# Altium schematic symbol library kmilo17pet-LT_ChargePump.SchLib: 599 symbols (part 3 of 29)
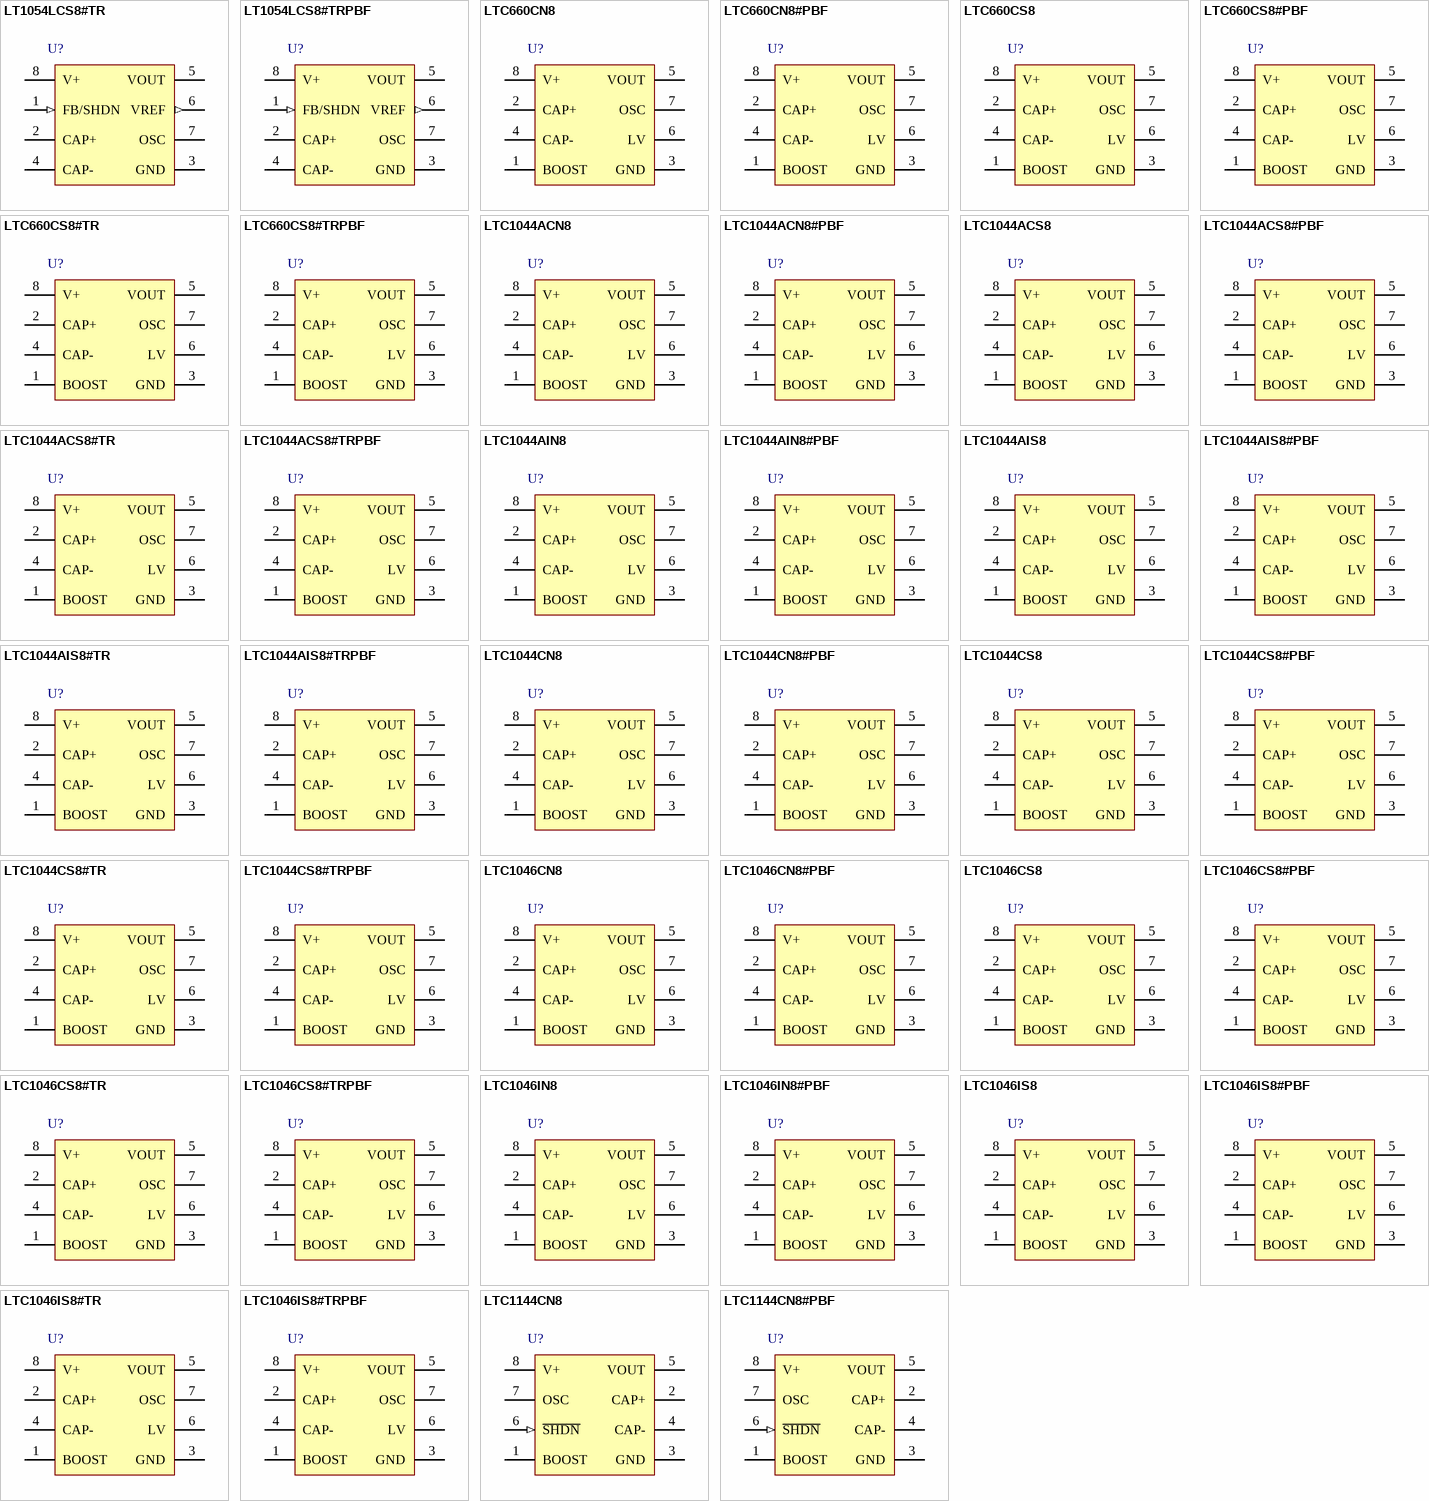
[diagram p18: symbols LT1054LCS8#TR to LTC1144CN8#PBF]

## LTC1044ACS8#TRPBF
designator U?
12 V CMOS Voltage Converter, 8-pin SOIC (S8-8), 0 to 70 degC, Pb-Free, Tape and Reel; Manufacturer: Linear Technology; PartNumber: LTC1044ACS8#TRPBF; Frequency(kHz): 5; Isupply(mA): 0.2; Max Iout(mA): 20; Vin Max(V): 12; Vin Min(V): 1.5; Voutput: 2Vin, -Vin, 0.5Vin; DatasheetVersion: Rev. 0; PackageVersion: Rev. G, 03/2012; PackageReference: S8-8; PackageDescription: 8-Pin Plastic Small Outline (Narrow .150 Inch), Body 4.9 x 3.9 mm, Pitch 1.27 mm; Supplier 1: Digi-Key; Supplier Part Number 1: LTC1044ACS8#TRPBFTR-ND; Supplier 2: Digi-Key; Supplier Part Number 2: LTC1044ACS8#TRPBFCT-ND; Supplier 3: Digi-Key; Supplier Part Number 3: LTC1044ACS8#TRPBFDKR-ND; Supplier 4: Newark; Supplier Part Number 4: 55M8889; Packing: Tape and Reel; RoHS: TRUE; Mounting Technology: Surface Mount; ComponentLink1Description: Manufacturer URL; ComponentLink1URL: http://www.linear.com/; ComponentLink2Description: Datasheet; ComponentLink2URL: http://cds.linear.com/docs/en/datasheet/lt1044a.pdf; ComponentLink3Description: Package Specification; ComponentLink3URL: http://cds.linear.com/docs/en/packaging/05081610_G_SO8.pdf
footprint LT-S8-8_N (SOIC, 8-Leads, Body 5x4mm, Pitch 1.27mm, IPC Medium Density)
footprint LT-S8-8_L (SOIC, 8-Leads, Body 5x4mm, Pitch 1.27mm, IPC High Density)
footprint LT-S8-8_M (SOIC, 8-Leads, Body 5x4mm, Pitch 1.27mm, IPC Low Density)
pins: 1 BOOST, 2 CAP+, 3 GND (power), 4 CAP-, 5 VOUT (power), 6 LV, 7 OSC, 8 V+ (power)

## LTC1044AIN8
designator U?
12 V CMOS Voltage Converter, 8-pin DIP (N8-8), -40 to 85 degC; Manufacturer: Linear Technology; PartNumber: LTC1044AIN8; Frequency(kHz): 5; Isupply(mA): 0.2; Max Iout(mA): 20; Vin Max(V): 12; Vin Min(V): 1.5; Voutput: 2Vin, -Vin, 0.5Vin; DatasheetVersion: Rev. 0; PackageVersion: Rev. I, 07/2011; PackageReference: N8-8; PackageDescription: 8-Pin PDIP, Body 10.16 x 6.48 mm, Pitch 2.54 mm; Supplier 1: Digi-Key; Supplier Part Number 1: LTC1044AIN8-ND; RoHS: FALSE; Mounting Technology: Through Hole; ComponentLink1Description: Manufacturer URL; ComponentLink1URL: http://www.linear.com/; ComponentLink2Description: Datasheet; ComponentLink2URL: http://cds.linear.com/docs/en/datasheet/lt1044a.pdf; ComponentLink3Description: Package Specification; ComponentLink3URL: http://www.linear.com/docs/en/packaging/05081510_I_N8.pdf
footprint LT-N8-8 (DIP, 8-Leads, Body 10.15x6.85mm, Pitch 2.54mm)
pins: 1 BOOST, 2 CAP+, 3 GND (power), 4 CAP-, 5 VOUT (power), 6 LV, 7 OSC, 8 V+ (power)

## LTC1044AIN8#PBF
designator U?
12 V CMOS Voltage Converter, 8-pin DIP (N8-8), -40 to 85 degC, Pb-Free; Manufacturer: Linear Technology; PartNumber: LTC1044AIN8#PBF; Frequency(kHz): 5; Isupply(mA): 0.2; Max Iout(mA): 20; Vin Max(V): 12; Vin Min(V): 1.5; Voutput: 2Vin, -Vin, 0.5Vin; DatasheetVersion: Rev. 0; PackageVersion: Rev. I, 07/2011; PackageReference: N8-8; PackageDescription: 8-Pin PDIP, Body 10.16 x 6.48 mm, Pitch 2.54 mm; Supplier 1: Digi-Key; Supplier Part Number 1: LTC1044AIN8#PBF-ND; Supplier 2: Newark; Supplier Part Number 2: 55M8891; RoHS: TRUE; Mounting Technology: Through Hole; ComponentLink1Description: Manufacturer URL; ComponentLink1URL: http://www.linear.com/; ComponentLink2Description: Datasheet; ComponentLink2URL: http://cds.linear.com/docs/en/datasheet/lt1044a.pdf; ComponentLink3Description: Package Specification; ComponentLink3URL: http://www.linear.com/docs/en/packaging/05081510_I_N8.pdf
footprint LT-N8-8 (DIP, 8-Leads, Body 10.15x6.85mm, Pitch 2.54mm)
pins: 1 BOOST, 2 CAP+, 3 GND (power), 4 CAP-, 5 VOUT (power), 6 LV, 7 OSC, 8 V+ (power)

## LTC1044AIS8
designator U?
12 V CMOS Voltage Converter, 8-pin SOIC (S8-8), -40 to 85 degC; Manufacturer: Linear Technology; PartNumber: LTC1044AIS8; Frequency(kHz): 5; Isupply(mA): 0.2; Max Iout(mA): 20; Vin Max(V): 12; Vin Min(V): 1.5; Voutput: 2Vin, -Vin, 0.5Vin; DatasheetVersion: Rev. 0; PackageVersion: Rev. G, 03/2012; PackageReference: S8-8; PackageDescription: 8-Pin Plastic Small Outline (Narrow .150 Inch), Body 4.9 x 3.9 mm, Pitch 1.27 mm; Supplier 1: Digi-Key; Supplier Part Number 1: LTC1044AIS8-ND; Supplier 2: Newark; Supplier Part Number 2: 55M8892; RoHS: FALSE; Mounting Technology: Surface Mount; ComponentLink1Description: Manufacturer URL; ComponentLink1URL: http://www.linear.com/; ComponentLink2Description: Datasheet; ComponentLink2URL: http://cds.linear.com/docs/en/datasheet/lt1044a.pdf; ComponentLink3Description: Package Specification; ComponentLink3URL: http://cds.linear.com/docs/en/packaging/05081610_G_SO8.pdf
footprint LT-S8-8_N (SOIC, 8-Leads, Body 5x4mm, Pitch 1.27mm, IPC Medium Density)
footprint LT-S8-8_L (SOIC, 8-Leads, Body 5x4mm, Pitch 1.27mm, IPC High Density)
footprint LT-S8-8_M (SOIC, 8-Leads, Body 5x4mm, Pitch 1.27mm, IPC Low Density)
pins: 1 BOOST, 2 CAP+, 3 GND (power), 4 CAP-, 5 VOUT (power), 6 LV, 7 OSC, 8 V+ (power)

## LTC1044AIS8#PBF
designator U?
12 V CMOS Voltage Converter, 8-pin SOIC (S8-8), -40 to 85 degC, Pb-Free; Manufacturer: Linear Technology; PartNumber: LTC1044AIS8#PBF; Frequency(kHz): 5; Isupply(mA): 0.2; Max Iout(mA): 20; Vin Max(V): 12; Vin Min(V): 1.5; Voutput: 2Vin, -Vin, 0.5Vin; DatasheetVersion: Rev. 0; PackageVersion: Rev. G, 03/2012; PackageReference: S8-8; PackageDescription: 8-Pin Plastic Small Outline (Narrow .150 Inch), Body 4.9 x 3.9 mm, Pitch 1.27 mm; Supplier 1: Digi-Key; Supplier Part Number 1: LTC1044AIS8#PBF-ND; Supplier 2: Farnell; Supplier Part Number 2: 2294973; Supplier 3: Newark; Supplier Part Number 3: 55M8893; RoHS: TRUE; Mounting Technology: Surface Mount; ComponentLink1Description: Manufacturer URL; ComponentLink1URL: http://www.linear.com/; ComponentLink2Description: Datasheet; ComponentLink2URL: http://cds.linear.com/docs/en/datasheet/lt1044a.pdf; ComponentLink3Description: Package Specification; ComponentLink3URL: http://cds.linear.com/docs/en/packaging/05081610_G_SO8.pdf
footprint LT-S8-8_N (SOIC, 8-Leads, Body 5x4mm, Pitch 1.27mm, IPC Medium Density)
footprint LT-S8-8_L (SOIC, 8-Leads, Body 5x4mm, Pitch 1.27mm, IPC High Density)
footprint LT-S8-8_M (SOIC, 8-Leads, Body 5x4mm, Pitch 1.27mm, IPC Low Density)
pins: 1 BOOST, 2 CAP+, 3 GND (power), 4 CAP-, 5 VOUT (power), 6 LV, 7 OSC, 8 V+ (power)

## LTC1044AIS8#TR
designator U?
12 V CMOS Voltage Converter, 8-pin SOIC (S8-8), -40 to 85 degC, Tape and Reel; Manufacturer: Linear Technology; PartNumber: LTC1044AIS8#TR; Frequency(kHz): 5; Isupply(mA): 0.2; Max Iout(mA): 20; Vin Max(V): 12; Vin Min(V): 1.5; Voutput: 2Vin, -Vin, 0.5Vin; DatasheetVersion: Rev. 0; PackageVersion: Rev. G, 03/2012; PackageReference: S8-8; PackageDescription: 8-Pin Plastic Small Outline (Narrow .150 Inch), Body 4.9 x 3.9 mm, Pitch 1.27 mm; Supplier 1: Digi-Key; Supplier Part Number 1: LTC1044AIS8#TR-ND; Packing: Tape and Reel; RoHS: FALSE; Mounting Technology: Surface Mount; ComponentLink1Description: Manufacturer URL; ComponentLink1URL: http://www.linear.com/; ComponentLink2Description: Datasheet; ComponentLink2URL: http://cds.linear.com/docs/en/datasheet/lt1044a.pdf; ComponentLink3Description: Package Specification; ComponentLink3URL: http://cds.linear.com/docs/en/packaging/05081610_G_SO8.pdf
footprint LT-S8-8_N (SOIC, 8-Leads, Body 5x4mm, Pitch 1.27mm, IPC Medium Density)
footprint LT-S8-8_L (SOIC, 8-Leads, Body 5x4mm, Pitch 1.27mm, IPC High Density)
footprint LT-S8-8_M (SOIC, 8-Leads, Body 5x4mm, Pitch 1.27mm, IPC Low Density)
pins: 1 BOOST, 2 CAP+, 3 GND (power), 4 CAP-, 5 VOUT (power), 6 LV, 7 OSC, 8 V+ (power)

## LTC1044AIS8#TRPBF
designator U?
12 V CMOS Voltage Converter, 8-pin SOIC (S8-8), -40 to 85 degC, Pb-Free, Tape and Reel; Manufacturer: Linear Technology; PartNumber: LTC1044AIS8#TRPBF; Frequency(kHz): 5; Isupply(mA): 0.2; Max Iout(mA): 20; Vin Max(V): 12; Vin Min(V): 1.5; Voutput: 2Vin, -Vin, 0.5Vin; DatasheetVersion: Rev. 0; PackageVersion: Rev. G, 03/2012; PackageReference: S8-8; PackageDescription: 8-Pin Plastic Small Outline (Narrow .150 Inch), Body 4.9 x 3.9 mm, Pitch 1.27 mm; Supplier 1: Digi-Key; Supplier Part Number 1: LTC1044AIS8#TRPBF-ND; Supplier 2: Newark; Supplier Part Number 2: 55M8895; Packing: Tape and Reel; RoHS: TRUE; Mounting Technology: Surface Mount; ComponentLink1Description: Manufacturer URL; ComponentLink1URL: http://www.linear.com/; ComponentLink2Description: Datasheet; ComponentLink2URL: http://cds.linear.com/docs/en/datasheet/lt1044a.pdf; ComponentLink3Description: Package Specification; ComponentLink3URL: http://cds.linear.com/docs/en/packaging/05081610_G_SO8.pdf
footprint LT-S8-8_N (SOIC, 8-Leads, Body 5x4mm, Pitch 1.27mm, IPC Medium Density)
footprint LT-S8-8_L (SOIC, 8-Leads, Body 5x4mm, Pitch 1.27mm, IPC High Density)
footprint LT-S8-8_M (SOIC, 8-Leads, Body 5x4mm, Pitch 1.27mm, IPC Low Density)
pins: 1 BOOST, 2 CAP+, 3 GND (power), 4 CAP-, 5 VOUT (power), 6 LV, 7 OSC, 8 V+ (power)

## LTC1044CN8
designator U?
Switched Capacitor Voltage Converter, 8-pin DIP (N8-8), -40 to 85 degC; Manufacturer: Linear Technology; PartNumber: LTC1044CN8; Frequency(kHz): 5; Isupply(mA): 0.2; Max Iout(mA): 20; Vin Max(V): 9; Vin Min(V): 1.5; Voutput: 2Vin, -Vin, 0.5Vin; PackageVersion: Rev. I, 07/2011; PackageReference: N8-8; PackageDescription: 8-Pin PDIP, Body 10.16 x 6.48 mm, Pitch 2.54 mm; Supplier 1: Digi-Key; Supplier Part Number 1: LTC1044CN8-ND; RoHS: FALSE; Mounting Technology: Through Hole; ComponentLink1Description: Manufacturer URL; ComponentLink1URL: http://www.linear.com/; ComponentLink2Description: Datasheet; ComponentLink2URL: http://cds.linear.com/docs/en/datasheet/lt1044.pdf; ComponentLink3Description: Package Specification; ComponentLink3URL: http://www.linear.com/docs/en/packaging/05081510_I_N8.pdf
footprint LT-N8-8 (DIP, 8-Leads, Body 10.15x6.85mm, Pitch 2.54mm)
pins: 1 BOOST, 2 CAP+, 3 GND (power), 4 CAP-, 5 VOUT (power), 6 LV, 7 OSC, 8 V+ (power)

## LTC1044CN8#PBF
designator U?
Switched Capacitor Voltage Converter, 8-pin DIP (N8-8), -40 to 85 degC, Pb-Free; Manufacturer: Linear Technology; PartNumber: LTC1044CN8#PBF; Frequency(kHz): 5; Isupply(mA): 0.2; Max Iout(mA): 20; Vin Max(V): 9; Vin Min(V): 1.5; Voutput: 2Vin, -Vin, 0.5Vin; PackageVersion: Rev. I, 07/2011; PackageReference: N8-8; PackageDescription: 8-Pin PDIP, Body 10.16 x 6.48 mm, Pitch 2.54 mm; Supplier 1: Digi-Key; Supplier Part Number 1: LTC1044CN8#PBF-ND; Supplier 2: Farnell; Supplier Part Number 2: 9560734; Supplier 3: Newark; Supplier Part Number 3: 55M8898; RoHS: TRUE; Mounting Technology: Through Hole; ComponentLink1Description: Manufacturer URL; ComponentLink1URL: http://www.linear.com/; ComponentLink2Description: Datasheet; ComponentLink2URL: http://cds.linear.com/docs/en/datasheet/lt1044.pdf; ComponentLink3Description: Package Specification; ComponentLink3URL: http://www.linear.com/docs/en/packaging/05081510_I_N8.pdf
footprint LT-N8-8 (DIP, 8-Leads, Body 10.15x6.85mm, Pitch 2.54mm)
pins: 1 BOOST, 2 CAP+, 3 GND (power), 4 CAP-, 5 VOUT (power), 6 LV, 7 OSC, 8 V+ (power)

## LTC1044CS8
designator U?
Switched Capacitor Voltage Converter, 8-pin SOIC (S8-8), -40 to 85 degC; Manufacturer: Linear Technology; PartNumber: LTC1044CS8; Frequency(kHz): 5; Isupply(mA): 0.2; Max Iout(mA): 20; Vin Max(V): 9; Vin Min(V): 1.5; Voutput: 2Vin, -Vin, 0.5Vin; PackageVersion: Rev. G, 03/2012; PackageReference: S8-8; PackageDescription: 8-Pin Plastic Small Outline (Narrow .150 Inch), Body 4.9 x 3.9 mm, Pitch 1.27 mm; Supplier 1: Digi-Key; Supplier Part Number 1: LTC1044CS8-ND; Supplier 2: Newark; Supplier Part Number 2: 55M8899; RoHS: FALSE; Mounting Technology: Surface Mount; ComponentLink1Description: Manufacturer URL; ComponentLink1URL: http://www.linear.com/; ComponentLink2Description: Datasheet; ComponentLink2URL: http://cds.linear.com/docs/en/datasheet/lt1044cs8.pdf; ComponentLink3Description: Package Specification; ComponentLink3URL: http://cds.linear.com/docs/en/packaging/05081610_G_SO8.pdf
footprint LT-S8-8_N (SOIC, 8-Leads, Body 5x4mm, Pitch 1.27mm, IPC Medium Density)
footprint LT-S8-8_L (SOIC, 8-Leads, Body 5x4mm, Pitch 1.27mm, IPC High Density)
footprint LT-S8-8_M (SOIC, 8-Leads, Body 5x4mm, Pitch 1.27mm, IPC Low Density)
pins: 1 BOOST, 2 CAP+, 3 GND (power), 4 CAP-, 5 VOUT (power), 6 LV, 7 OSC, 8 V+ (power)

## LTC1044CS8#PBF
designator U?
Switched Capacitor Voltage Converter, 8-pin SOIC (S8-8), -40 to 85 degC, Pb-Free; Manufacturer: Linear Technology; PartNumber: LTC1044CS8#PBF; Frequency(kHz): 5; Isupply(mA): 0.2; Max Iout(mA): 20; Vin Max(V): 9; Vin Min(V): 1.5; Voutput: 2Vin, -Vin, 0.5Vin; PackageVersion: Rev. G, 03/2012; PackageReference: S8-8; PackageDescription: 8-Pin Plastic Small Outline (Narrow .150 Inch), Body 4.9 x 3.9 mm, Pitch 1.27 mm; Supplier 1: Digi-Key; Supplier Part Number 1: LTC1044CS8#PBF-ND; Supplier 2: Farnell; Supplier Part Number 2: 1663593; Supplier 3: Newark; Supplier Part Number 3: 55M8900; RoHS: TRUE; Mounting Technology: Surface Mount; ComponentLink1Description: Manufacturer URL; ComponentLink1URL: http://www.linear.com/; ComponentLink2Description: Datasheet; ComponentLink2URL: http://cds.linear.com/docs/en/datasheet/lt1044cs8.pdf; ComponentLink3Description: Package Specification; ComponentLink3URL: http://cds.linear.com/docs/en/packaging/05081610_G_SO8.pdf
footprint LT-S8-8_N (SOIC, 8-Leads, Body 5x4mm, Pitch 1.27mm, IPC Medium Density)
footprint LT-S8-8_L (SOIC, 8-Leads, Body 5x4mm, Pitch 1.27mm, IPC High Density)
footprint LT-S8-8_M (SOIC, 8-Leads, Body 5x4mm, Pitch 1.27mm, IPC Low Density)
pins: 1 BOOST, 2 CAP+, 3 GND (power), 4 CAP-, 5 VOUT (power), 6 LV, 7 OSC, 8 V+ (power)

## LTC1044CS8#TR
designator U?
Switched Capacitor Voltage Converter, 8-pin SOIC (S8-8), -40 to 85 degC, Tape and Reel; Manufacturer: Linear Technology; PartNumber: LTC1044CS8#TR; Frequency(kHz): 5; Isupply(mA): 0.2; Max Iout(mA): 20; Vin Max(V): 9; Vin Min(V): 1.5; Voutput: 2Vin, -Vin, 0.5Vin; PackageVersion: Rev. G, 03/2012; PackageReference: S8-8; PackageDescription: 8-Pin Plastic Small Outline (Narrow .150 Inch), Body 4.9 x 3.9 mm, Pitch 1.27 mm; Supplier 1: Digi-Key; Supplier Part Number 1: LTC1044CS8TR-ND; Packing: Tape and Reel; RoHS: FALSE; Mounting Technology: Surface Mount; ComponentLink1Description: Manufacturer URL; ComponentLink1URL: http://www.linear.com/; ComponentLink2Description: Datasheet; ComponentLink2URL: http://cds.linear.com/docs/en/datasheet/lt1044cs8.pdf; ComponentLink3Description: Package Specification; ComponentLink3URL: http://cds.linear.com/docs/en/packaging/05081610_G_SO8.pdf
footprint LT-S8-8_N (SOIC, 8-Leads, Body 5x4mm, Pitch 1.27mm, IPC Medium Density)
footprint LT-S8-8_L (SOIC, 8-Leads, Body 5x4mm, Pitch 1.27mm, IPC High Density)
footprint LT-S8-8_M (SOIC, 8-Leads, Body 5x4mm, Pitch 1.27mm, IPC Low Density)
pins: 1 BOOST, 2 CAP+, 3 GND (power), 4 CAP-, 5 VOUT (power), 6 LV, 7 OSC, 8 V+ (power)

## LTC1044CS8#TRPBF
designator U?
Switched Capacitor Voltage Converter, 8-pin SOIC (S8-8), -40 to 85 degC, Pb-Free, Tape and Reel; Manufacturer: Linear Technology; PartNumber: LTC1044CS8#TRPBF; Frequency(kHz): 5; Isupply(mA): 0.2; Max Iout(mA): 20; Vin Max(V): 9; Vin Min(V): 1.5; Voutput: 2Vin, -Vin, 0.5Vin; PackageVersion: Rev. G, 03/2012; PackageReference: S8-8; PackageDescription: 8-Pin Plastic Small Outline (Narrow .150 Inch), Body 4.9 x 3.9 mm, Pitch 1.27 mm; Supplier 1: Digi-Key; Supplier Part Number 1: LTC1044CS8#TRPBFTR-ND; Supplier 2: Digi-Key; Supplier Part Number 2: LTC1044CS8#TRPBFCT-ND; Supplier 3: Digi-Key; Supplier Part Number 3: LTC1044CS8#TRPBFDKR-ND; Supplier 4: Newark; Supplier Part Number 4: 55M8902; Packing: Tape and Reel; RoHS: TRUE; Mounting Technology: Surface Mount; ComponentLink1Description: Manufacturer URL; ComponentLink1URL: http://www.linear.com/; ComponentLink2Description: Datasheet; ComponentLink2URL: http://cds.linear.com/docs/en/datasheet/lt1044cs8.pdf; ComponentLink3Description: Package Specification; ComponentLink3URL: http://cds.linear.com/docs/en/packaging/05081610_G_SO8.pdf
footprint LT-S8-8_N (SOIC, 8-Leads, Body 5x4mm, Pitch 1.27mm, IPC Medium Density)
footprint LT-S8-8_L (SOIC, 8-Leads, Body 5x4mm, Pitch 1.27mm, IPC High Density)
footprint LT-S8-8_M (SOIC, 8-Leads, Body 5x4mm, Pitch 1.27mm, IPC Low Density)
pins: 1 BOOST, 2 CAP+, 3 GND (power), 4 CAP-, 5 VOUT (power), 6 LV, 7 OSC, 8 V+ (power)

## LTC1046CN8
designator U?
Inductorless 5 V to -5 V Converter, 1.5 to 6 V Vin, 8-pin DIP (N8-8), 0 to 70 degC; Manufacturer: Linear Technology; PartNumber: LTC1046CN8; Frequency(kHz): 30; Isupply(mA): 0.165; Max Iout(mA): 50; Vin Max(V): 6; Vin Min(V): 1.5; Voutput: 2Vin, -Vin, 0.5Vin; DatasheetVersion: Rev. B; PackageVersion: Rev. I, 07/2011; PackageReference: N8-8; PackageDescription: 8-Pin PDIP, Body 10.16 x 6.48 mm, Pitch 2.54 mm; Supplier 1: Digi-Key; Supplier Part Number 1: LTC1046CN8-ND; RoHS: FALSE; Mounting Technology: Through Hole; ComponentLink1Description: Manufacturer URL; ComponentLink1URL: http://www.linear.com/; ComponentLink2Description: Datasheet; ComponentLink2URL: http://cds.linear.com/docs/en/datasheet/1046fb.pdf; ComponentLink3Description: Package Specification; ComponentLink3URL: http://www.linear.com/docs/en/packaging/05081510_I_N8.pdf
footprint LT-N8-8 (DIP, 8-Leads, Body 10.15x6.85mm, Pitch 2.54mm)
pins: 1 BOOST, 2 CAP+, 3 GND (power), 4 CAP-, 5 VOUT (power), 6 LV, 7 OSC, 8 V+ (power)

## LTC1046CN8#PBF
designator U?
Inductorless 5 V to -5 V Converter, 1.5 to 6 V Vin, 8-pin DIP (N8-8), 0 to 70 degC, Pb-Free; Manufacturer: Linear Technology; PartNumber: LTC1046CN8#PBF; Frequency(kHz): 30; Isupply(mA): 0.165; Max Iout(mA): 50; Vin Max(V): 6; Vin Min(V): 1.5; Voutput: 2Vin, -Vin, 0.5Vin; DatasheetVersion: Rev. B; PackageVersion: Rev. I, 07/2011; PackageReference: N8-8; PackageDescription: 8-Pin PDIP, Body 10.16 x 6.48 mm, Pitch 2.54 mm; Supplier 1: Digi-Key; Supplier Part Number 1: LTC1046CN8#PBF-ND; Supplier 2: Farnell; Supplier Part Number 2: 9560742; Supplier 3: Newark; Supplier Part Number 3: 55M8910; RoHS: TRUE; Mounting Technology: Through Hole; ComponentLink1Description: Manufacturer URL; ComponentLink1URL: http://www.linear.com/; ComponentLink2Description: Datasheet; ComponentLink2URL: http://cds.linear.com/docs/en/datasheet/1046fb.pdf; ComponentLink3Description: Package Specification; ComponentLink3URL: http://www.linear.com/docs/en/packaging/05081510_I_N8.pdf
footprint LT-N8-8 (DIP, 8-Leads, Body 10.15x6.85mm, Pitch 2.54mm)
pins: 1 BOOST, 2 CAP+, 3 GND (power), 4 CAP-, 5 VOUT (power), 6 LV, 7 OSC, 8 V+ (power)

## LTC1046CS8
designator U?
Inductorless 5 V to -5 V Converter, 1.5 to 6 V Vin, 8-pin SOIC (S8-8), 0 to 70 degC; Manufacturer: Linear Technology; PartNumber: LTC1046CS8; Frequency(kHz): 30; Isupply(mA): 0.165; Max Iout(mA): 50; Vin Max(V): 6; Vin Min(V): 1.5; Voutput: 2Vin, -Vin, 0.5Vin; DatasheetVersion: Rev. B; PackageVersion: Rev. G, 03/2012; PackageReference: S8-8; PackageDescription: 8-Pin Plastic Small Outline (Narrow .150 Inch), Body 4.9 x 3.9 mm, Pitch 1.27 mm; Supplier 1: Digi-Key; Supplier Part Number 1: LTC1046CS8-ND; Supplier 2: Newark; Supplier Part Number 2: 55M8911; RoHS: FALSE; Mounting Technology: Surface Mount; ComponentLink1Description: Manufacturer URL; ComponentLink1URL: http://www.linear.com/; ComponentLink2Description: Datasheet; ComponentLink2URL: http://cds.linear.com/docs/en/datasheet/1046fb.pdf; ComponentLink3Description: Package Specification; ComponentLink3URL: http://cds.linear.com/docs/en/packaging/05081610_G_SO8.pdf
footprint LT-S8-8_N (SOIC, 8-Leads, Body 5x4mm, Pitch 1.27mm, IPC Medium Density)
footprint LT-S8-8_L (SOIC, 8-Leads, Body 5x4mm, Pitch 1.27mm, IPC High Density)
footprint LT-S8-8_M (SOIC, 8-Leads, Body 5x4mm, Pitch 1.27mm, IPC Low Density)
pins: 1 BOOST, 2 CAP+, 3 GND (power), 4 CAP-, 5 VOUT (power), 6 LV, 7 OSC, 8 V+ (power)

## LTC1046CS8#PBF
designator U?
Inductorless 5 V to -5 V Converter, 1.5 to 6 V Vin, 8-pin SOIC (S8-8), 0 to 70 degC, Pb-Free; Manufacturer: Linear Technology; PartNumber: LTC1046CS8#PBF; Frequency(kHz): 30; Isupply(mA): 0.165; Max Iout(mA): 50; Vin Max(V): 6; Vin Min(V): 1.5; Voutput: 2Vin, -Vin, 0.5Vin; DatasheetVersion: Rev. B; PackageVersion: Rev. G, 03/2012; PackageReference: S8-8; PackageDescription: 8-Pin Plastic Small Outline (Narrow .150 Inch), Body 4.9 x 3.9 mm, Pitch 1.27 mm; Supplier 1: Digi-Key; Supplier Part Number 1: LTC1046CS8#PBF-ND; Supplier 2: Farnell; Supplier Part Number 2: 1273830; Supplier 3: Newark; Supplier Part Number 3: 55M8912; RoHS: TRUE; Mounting Technology: Surface Mount; ComponentLink1Description: Manufacturer URL; ComponentLink1URL: http://www.linear.com/; ComponentLink2Description: Datasheet; ComponentLink2URL: http://cds.linear.com/docs/en/datasheet/1046fb.pdf; ComponentLink3Description: Package Specification; ComponentLink3URL: http://cds.linear.com/docs/en/packaging/05081610_G_SO8.pdf
footprint LT-S8-8_N (SOIC, 8-Leads, Body 5x4mm, Pitch 1.27mm, IPC Medium Density)
footprint LT-S8-8_L (SOIC, 8-Leads, Body 5x4mm, Pitch 1.27mm, IPC High Density)
footprint LT-S8-8_M (SOIC, 8-Leads, Body 5x4mm, Pitch 1.27mm, IPC Low Density)
pins: 1 BOOST, 2 CAP+, 3 GND (power), 4 CAP-, 5 VOUT (power), 6 LV, 7 OSC, 8 V+ (power)

## LTC1046CS8#TR
designator U?
Inductorless 5 V to -5 V Converter, 1.5 to 6 V Vin, 8-pin SOIC (S8-8), 0 to 70 degC, Tape and Reel; Manufacturer: Linear Technology; PartNumber: LTC1046CS8#TR; Frequency(kHz): 30; Isupply(mA): 0.165; Max Iout(mA): 50; Vin Max(V): 6; Vin Min(V): 1.5; Voutput: 2Vin, -Vin, 0.5Vin; DatasheetVersion: Rev. B; PackageVersion: Rev. G, 03/2012; PackageReference: S8-8; PackageDescription: 8-Pin Plastic Small Outline (Narrow .150 Inch), Body 4.9 x 3.9 mm, Pitch 1.27 mm; Supplier 1: Digi-Key; Supplier Part Number 1: LTC1046CS8#TR-ND; Packing: Tape and Reel; RoHS: FALSE; Mounting Technology: Surface Mount; ComponentLink1Description: Manufacturer URL; ComponentLink1URL: http://www.linear.com/; ComponentLink2Description: Datasheet; ComponentLink2URL: http://cds.linear.com/docs/en/datasheet/1046fb.pdf; ComponentLink3Description: Package Specification; ComponentLink3URL: http://cds.linear.com/docs/en/packaging/05081610_G_SO8.pdf
footprint LT-S8-8_N (SOIC, 8-Leads, Body 5x4mm, Pitch 1.27mm, IPC Medium Density)
footprint LT-S8-8_L (SOIC, 8-Leads, Body 5x4mm, Pitch 1.27mm, IPC High Density)
footprint LT-S8-8_M (SOIC, 8-Leads, Body 5x4mm, Pitch 1.27mm, IPC Low Density)
pins: 1 BOOST, 2 CAP+, 3 GND (power), 4 CAP-, 5 VOUT (power), 6 LV, 7 OSC, 8 V+ (power)

## LTC1046CS8#TRPBF
designator U?
Inductorless 5 V to -5 V Converter, 1.5 to 6 V Vin, 8-pin SOIC (S8-8), 0 to 70 degC, Pb-Free, Tape and Reel; Manufacturer: Linear Technology; PartNumber: LTC1046CS8#TRPBF; Frequency(kHz): 30; Isupply(mA): 0.165; Max Iout(mA): 50; Vin Max(V): 6; Vin Min(V): 1.5; Voutput: 2Vin, -Vin, 0.5Vin; DatasheetVersion: Rev. B; PackageVersion: Rev. G, 03/2012; PackageReference: S8-8; PackageDescription: 8-Pin Plastic Small Outline (Narrow .150 Inch), Body 4.9 x 3.9 mm, Pitch 1.27 mm; Supplier 1: Digi-Key; Supplier Part Number 1: LTC1046CS8#TRPBF-ND; Supplier 2: Newark; Supplier Part Number 2: 55M8914; Packing: Tape and Reel; RoHS: TRUE; Mounting Technology: Surface Mount; ComponentLink1Description: Manufacturer URL; ComponentLink1URL: http://www.linear.com/; ComponentLink2Description: Datasheet; ComponentLink2URL: http://cds.linear.com/docs/en/datasheet/1046fb.pdf; ComponentLink3Description: Package Specification; ComponentLink3URL: http://cds.linear.com/docs/en/packaging/05081610_G_SO8.pdf
footprint LT-S8-8_N (SOIC, 8-Leads, Body 5x4mm, Pitch 1.27mm, IPC Medium Density)
footprint LT-S8-8_L (SOIC, 8-Leads, Body 5x4mm, Pitch 1.27mm, IPC High Density)
footprint LT-S8-8_M (SOIC, 8-Leads, Body 5x4mm, Pitch 1.27mm, IPC Low Density)
pins: 1 BOOST, 2 CAP+, 3 GND (power), 4 CAP-, 5 VOUT (power), 6 LV, 7 OSC, 8 V+ (power)

## LTC1046IN8
designator U?
Inductorless 5 V to -5 V Converter, 1.5 to 6 V Vin, 8-pin DIP (N8-8), -40 to 85 degC; Manufacturer: Linear Technology; PartNumber: LTC1046IN8; Frequency(kHz): 30; Isupply(mA): 0.165; Max Iout(mA): 50; Vin Max(V): 6; Vin Min(V): 1.5; Voutput: 2Vin, -Vin, 0.5Vin; DatasheetVersion: Rev. B; PackageVersion: Rev. I, 07/2011; PackageReference: N8-8; PackageDescription: 8-Pin PDIP, Body 10.16 x 6.48 mm, Pitch 2.54 mm; Supplier 1: Digi-Key; Supplier Part Number 1: LTC1046IN8-ND; RoHS: FALSE; Mounting Technology: Through Hole; ComponentLink1Description: Manufacturer URL; ComponentLink1URL: http://www.linear.com/; ComponentLink2Description: Datasheet; ComponentLink2URL: http://cds.linear.com/docs/en/datasheet/1046fb.pdf; ComponentLink3Description: Package Specification; ComponentLink3URL: http://www.linear.com/docs/en/packaging/05081510_I_N8.pdf
footprint LT-N8-8 (DIP, 8-Leads, Body 10.15x6.85mm, Pitch 2.54mm)
pins: 1 BOOST, 2 CAP+, 3 GND (power), 4 CAP-, 5 VOUT (power), 6 LV, 7 OSC, 8 V+ (power)

## LTC1046IN8#PBF
designator U?
Inductorless 5 V to -5 V Converter, 1.5 to 6 V Vin, 8-pin DIP (N8-8), -40 to 85 degC, Pb-Free; Manufacturer: Linear Technology; PartNumber: LTC1046IN8#PBF; Frequency(kHz): 30; Isupply(mA): 0.165; Max Iout(mA): 50; Vin Max(V): 6; Vin Min(V): 1.5; Voutput: 2Vin, -Vin, 0.5Vin; DatasheetVersion: Rev. B; PackageVersion: Rev. I, 07/2011; PackageReference: N8-8; PackageDescription: 8-Pin PDIP, Body 10.16 x 6.48 mm, Pitch 2.54 mm; Supplier 1: Digi-Key; Supplier Part Number 1: LTC1046IN8#PBF-ND; Supplier 2: Farnell; Supplier Part Number 2: 1627389; Supplier 3: Newark; Supplier Part Number 3: 55M8916; RoHS: TRUE; Mounting Technology: Through Hole; ComponentLink1Description: Manufacturer URL; ComponentLink1URL: http://www.linear.com/; ComponentLink2Description: Datasheet; ComponentLink2URL: http://cds.linear.com/docs/en/datasheet/1046fb.pdf; ComponentLink3Description: Package Specification; ComponentLink3URL: http://www.linear.com/docs/en/packaging/05081510_I_N8.pdf
footprint LT-N8-8 (DIP, 8-Leads, Body 10.15x6.85mm, Pitch 2.54mm)
pins: 1 BOOST, 2 CAP+, 3 GND (power), 4 CAP-, 5 VOUT (power), 6 LV, 7 OSC, 8 V+ (power)

## LTC1046IS8
designator U?
Inductorless 5 V to -5 V Converter, 1.5 to 6 V Vin, 8-pin SOIC (S8-8), -40 to 85 degC; Manufacturer: Linear Technology; PartNumber: LTC1046IS8; Frequency(kHz): 30; Isupply(mA): 0.165; Max Iout(mA): 50; Vin Max(V): 6; Vin Min(V): 1.5; Voutput: 2Vin, -Vin, 0.5Vin; DatasheetVersion: Rev. B; PackageVersion: Rev. G, 03/2012; PackageReference: S8-8; PackageDescription: 8-Pin Plastic Small Outline (Narrow .150 Inch), Body 4.9 x 3.9 mm, Pitch 1.27 mm; Supplier 1: Digi-Key; Supplier Part Number 1: LTC1046IS8-ND; RoHS: FALSE; Mounting Technology: Surface Mount; ComponentLink1Description: Manufacturer URL; ComponentLink1URL: http://www.linear.com/; ComponentLink2Description: Datasheet; ComponentLink2URL: http://cds.linear.com/docs/en/datasheet/1046fb.pdf; ComponentLink3Description: Package Specification; ComponentLink3URL: http://cds.linear.com/docs/en/packaging/05081610_G_SO8.pdf
footprint LT-S8-8_N (SOIC, 8-Leads, Body 5x4mm, Pitch 1.27mm, IPC Medium Density)
footprint LT-S8-8_L (SOIC, 8-Leads, Body 5x4mm, Pitch 1.27mm, IPC High Density)
footprint LT-S8-8_M (SOIC, 8-Leads, Body 5x4mm, Pitch 1.27mm, IPC Low Density)
pins: 1 BOOST, 2 CAP+, 3 GND (power), 4 CAP-, 5 VOUT (power), 6 LV, 7 OSC, 8 V+ (power)

## LTC1046IS8#PBF
designator U?
Inductorless 5 V to -5 V Converter, 1.5 to 6 V Vin, 8-pin SOIC (S8-8), -40 to 85 degC, Pb-Free; Manufacturer: Linear Technology; PartNumber: LTC1046IS8#PBF; Frequency(kHz): 30; Isupply(mA): 0.165; Max Iout(mA): 50; Vin Max(V): 6; Vin Min(V): 1.5; Voutput: 2Vin, -Vin, 0.5Vin; DatasheetVersion: Rev. B; PackageVersion: Rev. G, 03/2012; PackageReference: S8-8; PackageDescription: 8-Pin Plastic Small Outline (Narrow .150 Inch), Body 4.9 x 3.9 mm, Pitch 1.27 mm; Supplier 1: Digi-Key; Supplier Part Number 1: LTC1046IS8#PBF-ND; Supplier 2: Farnell; Supplier Part Number 2: 2294974; Supplier 3: Newark; Supplier Part Number 3: 55M8918; RoHS: TRUE; Mounting Technology: Surface Mount; ComponentLink1Description: Manufacturer URL; ComponentLink1URL: http://www.linear.com/; ComponentLink2Description: Datasheet; ComponentLink2URL: http://cds.linear.com/docs/en/datasheet/1046fb.pdf; ComponentLink3Description: Package Specification; ComponentLink3URL: http://cds.linear.com/docs/en/packaging/05081610_G_SO8.pdf
footprint LT-S8-8_N (SOIC, 8-Leads, Body 5x4mm, Pitch 1.27mm, IPC Medium Density)
footprint LT-S8-8_L (SOIC, 8-Leads, Body 5x4mm, Pitch 1.27mm, IPC High Density)
footprint LT-S8-8_M (SOIC, 8-Leads, Body 5x4mm, Pitch 1.27mm, IPC Low Density)
pins: 1 BOOST, 2 CAP+, 3 GND (power), 4 CAP-, 5 VOUT (power), 6 LV, 7 OSC, 8 V+ (power)

## LTC1046IS8#TR
designator U?
Inductorless 5 V to -5 V Converter, 1.5 to 6 V Vin, 8-pin SOIC (S8-8), -40 to 85 degC, Tape and Reel; Manufacturer: Linear Technology; PartNumber: LTC1046IS8#TR; Frequency(kHz): 30; Isupply(mA): 0.165; Max Iout(mA): 50; Vin Max(V): 6; Vin Min(V): 1.5; Voutput: 2Vin, -Vin, 0.5Vin; DatasheetVersion: Rev. B; PackageVersion: Rev. G, 03/2012; PackageReference: S8-8; PackageDescription: 8-Pin Plastic Small Outline (Narrow .150 Inch), Body 4.9 x 3.9 mm, Pitch 1.27 mm; Supplier 1: Digi-Key; Supplier Part Number 1: LTC1046IS8#TR-ND; Packing: Tape and Reel; RoHS: FALSE; Mounting Technology: Surface Mount; ComponentLink1Description: Manufacturer URL; ComponentLink1URL: http://www.linear.com/; ComponentLink2Description: Datasheet; ComponentLink2URL: http://cds.linear.com/docs/en/datasheet/1046fb.pdf; ComponentLink3Description: Package Specification; ComponentLink3URL: http://cds.linear.com/docs/en/packaging/05081610_G_SO8.pdf
footprint LT-S8-8_N (SOIC, 8-Leads, Body 5x4mm, Pitch 1.27mm, IPC Medium Density)
footprint LT-S8-8_L (SOIC, 8-Leads, Body 5x4mm, Pitch 1.27mm, IPC High Density)
footprint LT-S8-8_M (SOIC, 8-Leads, Body 5x4mm, Pitch 1.27mm, IPC Low Density)
pins: 1 BOOST, 2 CAP+, 3 GND (power), 4 CAP-, 5 VOUT (power), 6 LV, 7 OSC, 8 V+ (power)

## LTC1046IS8#TRPBF
designator U?
Inductorless 5 V to -5 V Converter, 1.5 to 6 V Vin, 8-pin SOIC (S8-8), -40 to 85 degC, Pb-Free, Tape and Reel; Manufacturer: Linear Technology; PartNumber: LTC1046IS8#TRPBF; Frequency(kHz): 30; Isupply(mA): 0.165; Max Iout(mA): 50; Vin Max(V): 6; Vin Min(V): 1.5; Voutput: 2Vin, -Vin, 0.5Vin; DatasheetVersion: Rev. B; PackageVersion: Rev. G, 03/2012; PackageReference: S8-8; PackageDescription: 8-Pin Plastic Small Outline (Narrow .150 Inch), Body 4.9 x 3.9 mm, Pitch 1.27 mm; Supplier 1: Digi-Key; Supplier Part Number 1: LTC1046IS8#TRPBF-ND; Supplier 2: Newark; Supplier Part Number 2: 55M8920; Packing: Tape and Reel; RoHS: TRUE; Mounting Technology: Surface Mount; ComponentLink1Description: Manufacturer URL; ComponentLink1URL: http://www.linear.com/; ComponentLink2Description: Datasheet; ComponentLink2URL: http://cds.linear.com/docs/en/datasheet/1046fb.pdf; ComponentLink3Description: Package Specification; ComponentLink3URL: http://cds.linear.com/docs/en/packaging/05081610_G_SO8.pdf
footprint LT-S8-8_N (SOIC, 8-Leads, Body 5x4mm, Pitch 1.27mm, IPC Medium Density)
footprint LT-S8-8_L (SOIC, 8-Leads, Body 5x4mm, Pitch 1.27mm, IPC High Density)
footprint LT-S8-8_M (SOIC, 8-Leads, Body 5x4mm, Pitch 1.27mm, IPC Low Density)
pins: 1 BOOST, 2 CAP+, 3 GND (power), 4 CAP-, 5 VOUT (power), 6 LV, 7 OSC, 8 V+ (power)

## LTC1144CN8
designator U?
Switched-Capacitor Wide Input Range Voltage Converter with Shutdown, 8-pin DIP (N8-8), 0 to 70 degC; Manufacturer: Linear Technology; PartNumber: LTC1144CN8; Frequency(kHz): 10; Ishutdown(uA): 8; Isupply(mA): 1.1; Max Iout(mA): 50; Vin Max(V): 18; Vin Min(V): 2; Voutput: 2Vin, -Vin, 0.5Vin; PackageVersion: Rev. I, 07/2011; PackageReference: N8-8; PackageDescription: 8-Pin PDIP, Body 10.16 x 6.48 mm, Pitch 2.54 mm; Supplier 1: Digi-Key; Supplier Part Number 1: LTC1144CN8-ND; RoHS: FALSE; Mounting Technology: Through Hole; ComponentLink1Description: Manufacturer URL; ComponentLink1URL: http://www.linear.com/; ComponentLink2Description: Datasheet; ComponentLink2URL: http://cds.linear.com/docs/en/datasheet/lt1144.pdf; ComponentLink3Description: Package Specification; ComponentLink3URL: http://www.linear.com/docs/en/packaging/05081510_I_N8.pdf
footprint LT-N8-8 (DIP, 8-Leads, Body 10.15x6.85mm, Pitch 2.54mm)
pins: 1 BOOST "This pin will raise the oscillator frequency by a factor of 10 if tied high.", 2 CAP+ "Positive Terminal for Pump Capacitor.", 3 GND (power) "Ground Reference.", 4 CAP- "Negative Terminal for Pump Capacitor.", 5 VOUT (power) "Output of the Converter.", 6 ~{SHDN} (in) "Shutdown Pin. Tie to V+ pin or leave floating for normal operation. Tie to ground when in shutdown mode.", 7 OSC "Oscillator Input Pin. This pin can be overdriven with an external clock or can be slowed down by connecting an external capacitor between this pin and ground.", 8 V+ (power) "Input Voltage."

## LTC1144CN8#PBF
designator U?
Switched-Capacitor Wide Input Range Voltage Converter with Shutdown, 8-pin DIP (N8-8), 0 to 70 degC, Pb-Free; Manufacturer: Linear Technology; PartNumber: LTC1144CN8#PBF; Frequency(kHz): 10; Ishutdown(uA): 8; Isupply(mA): 1.1; Max Iout(mA): 50; Vin Max(V): 18; Vin Min(V): 2; Voutput: 2Vin, -Vin, 0.5Vin; PackageVersion: Rev. I, 07/2011; PackageReference: N8-8; PackageDescription: 8-Pin PDIP, Body 10.16 x 6.48 mm, Pitch 2.54 mm; Supplier 1: Digi-Key; Supplier Part Number 1: LTC1144CN8#PBF-ND; Supplier 2: Farnell; Supplier Part Number 2: 1627393; Supplier 3: Newark; Supplier Part Number 3: 55M9282; RoHS: TRUE; Mounting Technology: Through Hole; ComponentLink1Description: Manufacturer URL; ComponentLink1URL: http://www.linear.com/; ComponentLink2Description: Datasheet; ComponentLink2URL: http://cds.linear.com/docs/en/datasheet/lt1144.pdf; ComponentLink3Description: Package Specification; ComponentLink3URL: http://www.linear.com/docs/en/packaging/05081510_I_N8.pdf
footprint LT-N8-8 (DIP, 8-Leads, Body 10.15x6.85mm, Pitch 2.54mm)
pins: 1 BOOST "This pin will raise the oscillator frequency by a factor of 10 if tied high.", 2 CAP+ "Positive Terminal for Pump Capacitor.", 3 GND (power) "Ground Reference.", 4 CAP- "Negative Terminal for Pump Capacitor.", 5 VOUT (power) "Output of the Converter.", 6 ~{SHDN} (in) "Shutdown Pin. Tie to V+ pin or leave floating for normal operation. Tie to ground when in shutdown mode.", 7 OSC "Oscillator Input Pin. This pin can be overdriven with an external clock or can be slowed down by connecting an external capacitor between this pin and ground.", 8 V+ (power) "Input Voltage."

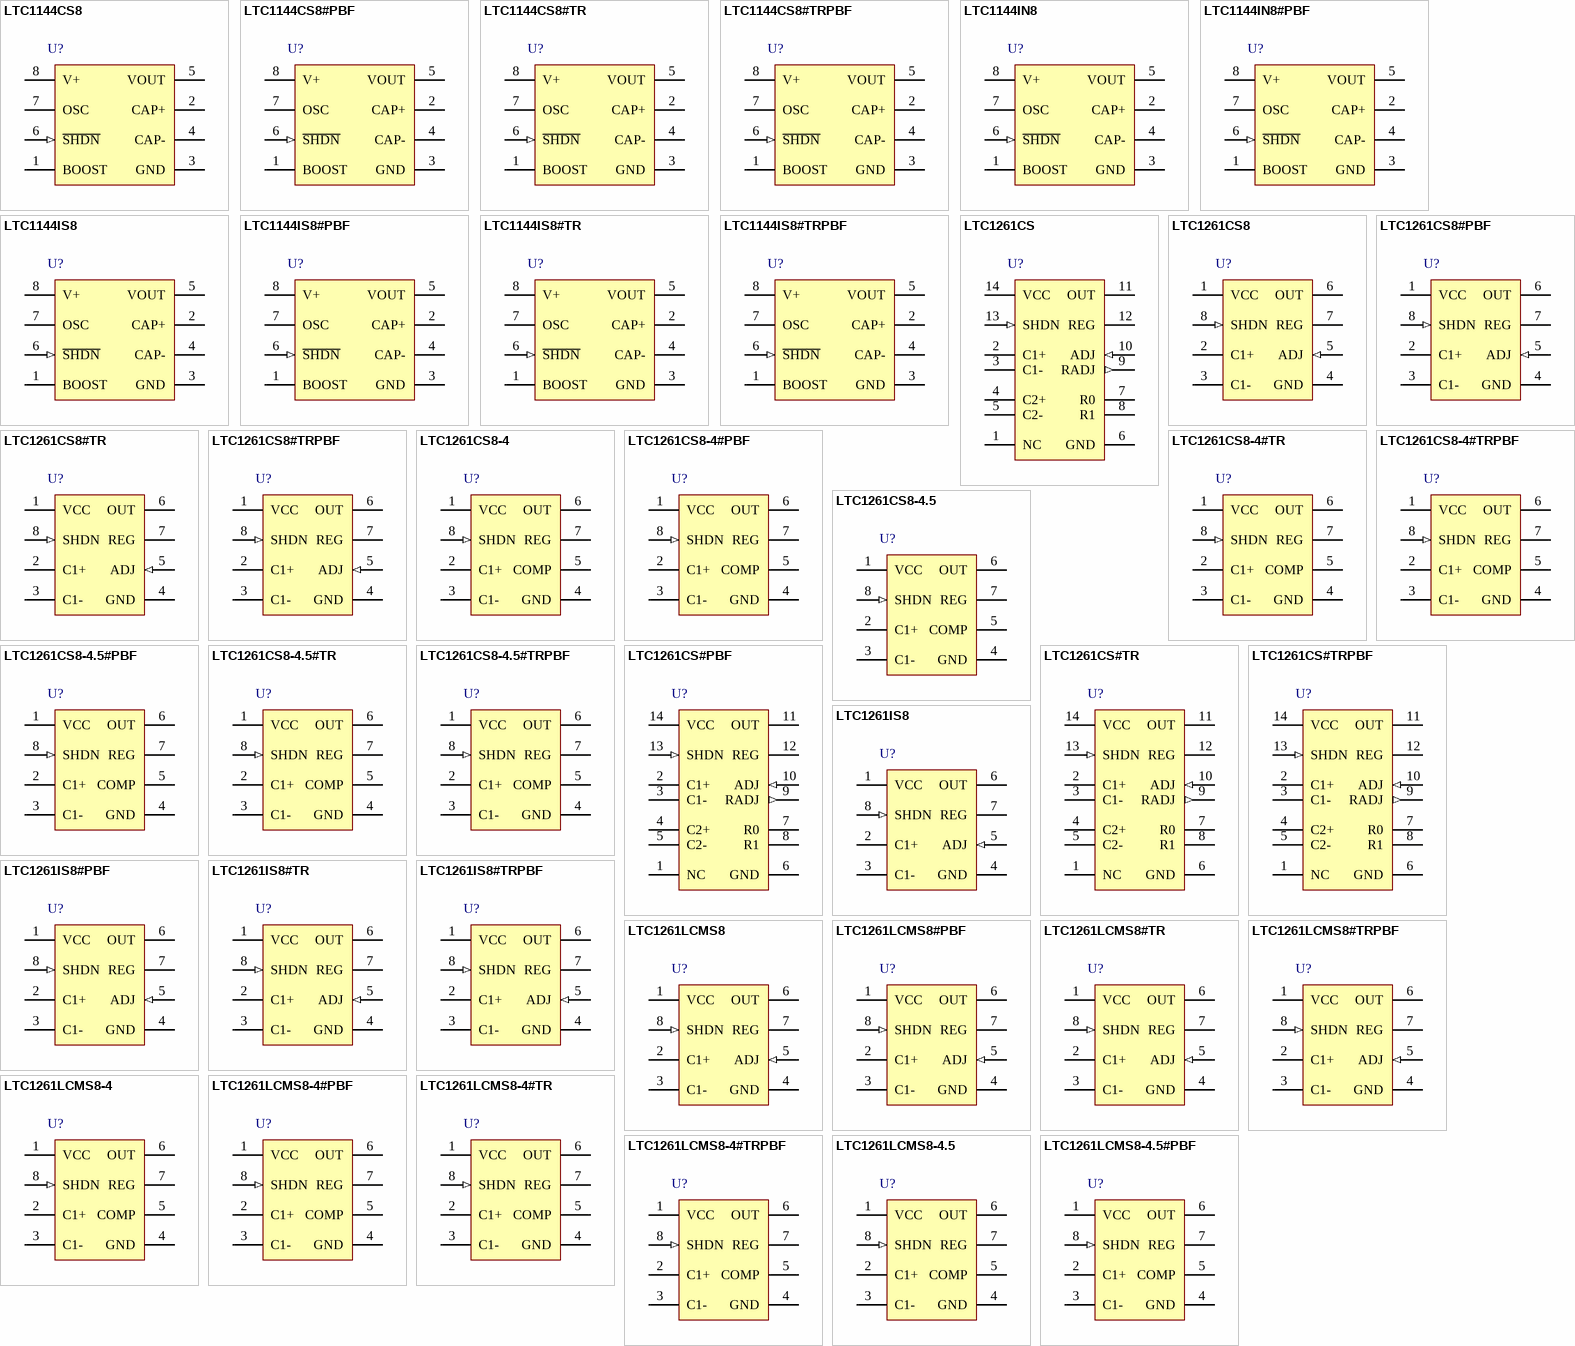
[diagram p2: symbols LTC1144CS8 to LTC1261LCMS8-4.5#PBF]

## LTC1144CS8
designator U?
Switched-Capacitor Wide Input Range Voltage Converter with Shutdown, 8-pin SOIC (S8-8), 0 to 70 degC; Manufacturer: Linear Technology; PartNumber: LTC1144CS8; Frequency(kHz): 10; Ishutdown(uA): 8; Isupply(mA): 1.1; Max Iout(mA): 50; Vin Max(V): 18; Vin Min(V): 2; Voutput: 2Vin, -Vin, 0.5Vin; PackageVersion: Rev. G, 03/2012; PackageReference: S8-8; PackageDescription: 8-Pin Plastic Small Outline (Narrow .150 Inch), Body 4.9 x 3.9 mm, Pitch 1.27 mm; Supplier 1: Digi-Key; Supplier Part Number 1: LTC1144CS8-ND; Supplier 2: Newark; Supplier Part Number 2: 55M9283; RoHS: FALSE; Mounting Technology: Surface Mount; ComponentLink1Description: Manufacturer URL; ComponentLink1URL: http://www.linear.com/; ComponentLink2Description: Datasheet; ComponentLink2URL: http://cds.linear.com/docs/en/datasheet/lt1144.pdf; ComponentLink3Description: Package Specification; ComponentLink3URL: http://cds.linear.com/docs/en/packaging/05081610_G_SO8.pdf
footprint LT-S8-8_N (SOIC, 8-Leads, Body 5x4mm, Pitch 1.27mm, IPC Medium Density)
footprint LT-S8-8_L (SOIC, 8-Leads, Body 5x4mm, Pitch 1.27mm, IPC High Density)
footprint LT-S8-8_M (SOIC, 8-Leads, Body 5x4mm, Pitch 1.27mm, IPC Low Density)
pins: 1 BOOST "This pin will raise the oscillator frequency by a factor of 10 if tied high.", 2 CAP+ "Positive Terminal for Pump Capacitor.", 3 GND (power) "Ground Reference.", 4 CAP- "Negative Terminal for Pump Capacitor.", 5 VOUT (power) "Output of the Converter.", 6 ~{SHDN} (in) "Shutdown Pin. Tie to V+ pin or leave floating for normal operation. Tie to ground when in shutdown mode.", 7 OSC "Oscillator Input Pin. This pin can be overdriven with an external clock or can be slowed down by connecting an external capacitor between this pin and ground.", 8 V+ (power) "Input Voltage."

## LTC1144CS8#PBF
designator U?
Switched-Capacitor Wide Input Range Voltage Converter with Shutdown, 8-pin SOIC (S8-8), 0 to 70 degC, Pb-Free; Manufacturer: Linear Technology; PartNumber: LTC1144CS8#PBF; Frequency(kHz): 10; Ishutdown(uA): 8; Isupply(mA): 1.1; Max Iout(mA): 50; Vin Max(V): 18; Vin Min(V): 2; Voutput: 2Vin, -Vin, 0.5Vin; PackageVersion: Rev. G, 03/2012; PackageReference: S8-8; PackageDescription: 8-Pin Plastic Small Outline (Narrow .150 Inch), Body 4.9 x 3.9 mm, Pitch 1.27 mm; Supplier 1: Digi-Key; Supplier Part Number 1: LTC1144CS8#PBF-ND; Supplier 2: Farnell; Supplier Part Number 2: 1273833; Supplier 3: Newark; Supplier Part Number 3: 55M9284; RoHS: TRUE; Mounting Technology: Surface Mount; ComponentLink1Description: Manufacturer URL; ComponentLink1URL: http://www.linear.com/; ComponentLink2Description: Datasheet; ComponentLink2URL: http://cds.linear.com/docs/en/datasheet/lt1144.pdf; ComponentLink3Description: Package Specification; ComponentLink3URL: http://cds.linear.com/docs/en/packaging/05081610_G_SO8.pdf
footprint LT-S8-8_N (SOIC, 8-Leads, Body 5x4mm, Pitch 1.27mm, IPC Medium Density)
footprint LT-S8-8_L (SOIC, 8-Leads, Body 5x4mm, Pitch 1.27mm, IPC High Density)
footprint LT-S8-8_M (SOIC, 8-Leads, Body 5x4mm, Pitch 1.27mm, IPC Low Density)
pins: 1 BOOST "This pin will raise the oscillator frequency by a factor of 10 if tied high.", 2 CAP+ "Positive Terminal for Pump Capacitor.", 3 GND (power) "Ground Reference.", 4 CAP- "Negative Terminal for Pump Capacitor.", 5 VOUT (power) "Output of the Converter.", 6 ~{SHDN} (in) "Shutdown Pin. Tie to V+ pin or leave floating for normal operation. Tie to ground when in shutdown mode.", 7 OSC "Oscillator Input Pin. This pin can be overdriven with an external clock or can be slowed down by connecting an external capacitor between this pin and ground.", 8 V+ (power) "Input Voltage."

## LTC1144CS8#TR
designator U?
Switched-Capacitor Wide Input Range Voltage Converter with Shutdown, 8-pin SOIC (S8-8), 0 to 70 degC, Tape and Reel; Manufacturer: Linear Technology; PartNumber: LTC1144CS8#TR; Frequency(kHz): 10; Ishutdown(uA): 8; Isupply(mA): 1.1; Max Iout(mA): 50; Vin Max(V): 18; Vin Min(V): 2; Voutput: 2Vin, -Vin, 0.5Vin; PackageVersion: Rev. G, 03/2012; PackageReference: S8-8; PackageDescription: 8-Pin Plastic Small Outline (Narrow .150 Inch), Body 4.9 x 3.9 mm, Pitch 1.27 mm; Supplier 1: Digi-Key; Supplier Part Number 1: LTC1144CS8#TR-ND; Packing: Tape and Reel; RoHS: FALSE; Mounting Technology: Surface Mount; ComponentLink1Description: Manufacturer URL; ComponentLink1URL: http://www.linear.com/; ComponentLink2Description: Datasheet; ComponentLink2URL: http://cds.linear.com/docs/en/datasheet/lt1144.pdf; ComponentLink3Description: Package Specification; ComponentLink3URL: http://cds.linear.com/docs/en/packaging/05081610_G_SO8.pdf
footprint LT-S8-8_N (SOIC, 8-Leads, Body 5x4mm, Pitch 1.27mm, IPC Medium Density)
footprint LT-S8-8_L (SOIC, 8-Leads, Body 5x4mm, Pitch 1.27mm, IPC High Density)
footprint LT-S8-8_M (SOIC, 8-Leads, Body 5x4mm, Pitch 1.27mm, IPC Low Density)
pins: 1 BOOST "This pin will raise the oscillator frequency by a factor of 10 if tied high.", 2 CAP+ "Positive Terminal for Pump Capacitor.", 3 GND (power) "Ground Reference.", 4 CAP- "Negative Terminal for Pump Capacitor.", 5 VOUT (power) "Output of the Converter.", 6 ~{SHDN} (in) "Shutdown Pin. Tie to V+ pin or leave floating for normal operation. Tie to ground when in shutdown mode.", 7 OSC "Oscillator Input Pin. This pin can be overdriven with an external clock or can be slowed down by connecting an external capacitor between this pin and ground.", 8 V+ (power) "Input Voltage."

## LTC1144CS8#TRPBF
designator U?
Switched-Capacitor Wide Input Range Voltage Converter with Shutdown, 8-pin SOIC (S8-8), 0 to 70 degC, Pb-Free, Tape and Reel; Manufacturer: Linear Technology; PartNumber: LTC1144CS8#TRPBF; Frequency(kHz): 10; Ishutdown(uA): 8; Isupply(mA): 1.1; Max Iout(mA): 50; Vin Max(V): 18; Vin Min(V): 2; Voutput: 2Vin, -Vin, 0.5Vin; PackageVersion: Rev. G, 03/2012; PackageReference: S8-8; PackageDescription: 8-Pin Plastic Small Outline (Narrow .150 Inch), Body 4.9 x 3.9 mm, Pitch 1.27 mm; Supplier 1: Digi-Key; Supplier Part Number 1: LTC1144CS8#TRPBF-ND; Packing: Tape and Reel; RoHS: TRUE; Mounting Technology: Surface Mount; ComponentLink1Description: Manufacturer URL; ComponentLink1URL: http://www.linear.com/; ComponentLink2Description: Datasheet; ComponentLink2URL: http://cds.linear.com/docs/en/datasheet/lt1144.pdf; ComponentLink3Description: Package Specification; ComponentLink3URL: http://cds.linear.com/docs/en/packaging/05081610_G_SO8.pdf
footprint LT-S8-8_N (SOIC, 8-Leads, Body 5x4mm, Pitch 1.27mm, IPC Medium Density)
footprint LT-S8-8_L (SOIC, 8-Leads, Body 5x4mm, Pitch 1.27mm, IPC High Density)
footprint LT-S8-8_M (SOIC, 8-Leads, Body 5x4mm, Pitch 1.27mm, IPC Low Density)
pins: 1 BOOST "This pin will raise the oscillator frequency by a factor of 10 if tied high.", 2 CAP+ "Positive Terminal for Pump Capacitor.", 3 GND (power) "Ground Reference.", 4 CAP- "Negative Terminal for Pump Capacitor.", 5 VOUT (power) "Output of the Converter.", 6 ~{SHDN} (in) "Shutdown Pin. Tie to V+ pin or leave floating for normal operation. Tie to ground when in shutdown mode.", 7 OSC "Oscillator Input Pin. This pin can be overdriven with an external clock or can be slowed down by connecting an external capacitor between this pin and ground.", 8 V+ (power) "Input Voltage."

## LTC1144IN8
designator U?
Switched-Capacitor Wide Input Range Voltage Converter with Shutdown, 8-pin DIP (N8-8), -40 to 85 degC; Manufacturer: Linear Technology; PartNumber: LTC1144IN8; Frequency(kHz): 10; Ishutdown(uA): 8; Isupply(mA): 1.1; Max Iout(mA): 50; Vin Max(V): 18; Vin Min(V): 2; Voutput: 2Vin, -Vin, 0.5Vin; PackageVersion: Rev. I, 07/2011; PackageReference: N8-8; PackageDescription: 8-Pin PDIP, Body 10.16 x 6.48 mm, Pitch 2.54 mm; Supplier 1: Digi-Key; Supplier Part Number 1: LTC1144IN8-ND; RoHS: FALSE; Mounting Technology: Through Hole; ComponentLink1Description: Manufacturer URL; ComponentLink1URL: http://www.linear.com/; ComponentLink2Description: Datasheet; ComponentLink2URL: http://cds.linear.com/docs/en/datasheet/lt1144.pdf; ComponentLink3Description: Package Specification; ComponentLink3URL: http://www.linear.com/docs/en/packaging/05081510_I_N8.pdf
footprint LT-N8-8 (DIP, 8-Leads, Body 10.15x6.85mm, Pitch 2.54mm)
pins: 1 BOOST "This pin will raise the oscillator frequency by a factor of 10 if tied high.", 2 CAP+ "Positive Terminal for Pump Capacitor.", 3 GND (power) "Ground Reference.", 4 CAP- "Negative Terminal for Pump Capacitor.", 5 VOUT (power) "Output of the Converter.", 6 ~{SHDN} (in) "Shutdown Pin. Tie to V+ pin or leave floating for normal operation. Tie to ground when in shutdown mode.", 7 OSC "Oscillator Input Pin. This pin can be overdriven with an external clock or can be slowed down by connecting an external capacitor between this pin and ground.", 8 V+ (power) "Input Voltage."

## LTC1144IN8#PBF
designator U?
Switched-Capacitor Wide Input Range Voltage Converter with Shutdown, 8-pin DIP (N8-8), -40 to 85 degC, Pb-Free; Manufacturer: Linear Technology; PartNumber: LTC1144IN8#PBF; Frequency(kHz): 10; Ishutdown(uA): 8; Isupply(mA): 1.1; Max Iout(mA): 50; Vin Max(V): 18; Vin Min(V): 2; Voutput: 2Vin, -Vin, 0.5Vin; PackageVersion: Rev. I, 07/2011; PackageReference: N8-8; PackageDescription: 8-Pin PDIP, Body 10.16 x 6.48 mm, Pitch 2.54 mm; Supplier 1: Digi-Key; Supplier Part Number 1: LTC1144IN8#PBF-ND; Supplier 2: Farnell; Supplier Part Number 2: 1556375; Supplier 3: Newark; Supplier Part Number 3: 55M9288; RoHS: TRUE; Mounting Technology: Through Hole; ComponentLink1Description: Manufacturer URL; ComponentLink1URL: http://www.linear.com/; ComponentLink2Description: Datasheet; ComponentLink2URL: http://cds.linear.com/docs/en/datasheet/lt1144.pdf; ComponentLink3Description: Package Specification; ComponentLink3URL: http://www.linear.com/docs/en/packaging/05081510_I_N8.pdf
footprint LT-N8-8 (DIP, 8-Leads, Body 10.15x6.85mm, Pitch 2.54mm)
pins: 1 BOOST "This pin will raise the oscillator frequency by a factor of 10 if tied high.", 2 CAP+ "Positive Terminal for Pump Capacitor.", 3 GND (power) "Ground Reference.", 4 CAP- "Negative Terminal for Pump Capacitor.", 5 VOUT (power) "Output of the Converter.", 6 ~{SHDN} (in) "Shutdown Pin. Tie to V+ pin or leave floating for normal operation. Tie to ground when in shutdown mode.", 7 OSC "Oscillator Input Pin. This pin can be overdriven with an external clock or can be slowed down by connecting an external capacitor between this pin and ground.", 8 V+ (power) "Input Voltage."

## LTC1144IS8
designator U?
Switched-Capacitor Wide Input Range Voltage Converter with Shutdown, 8-pin SOIC (S8-8), -40 to 85 degC; Manufacturer: Linear Technology; PartNumber: LTC1144IS8; Frequency(kHz): 10; Ishutdown(uA): 8; Isupply(mA): 1.1; Max Iout(mA): 50; Vin Max(V): 18; Vin Min(V): 2; Voutput: 2Vin, -Vin, 0.5Vin; PackageVersion: Rev. G, 03/2012; PackageReference: S8-8; PackageDescription: 8-Pin Plastic Small Outline (Narrow .150 Inch), Body 4.9 x 3.9 mm, Pitch 1.27 mm; Supplier 1: Digi-Key; Supplier Part Number 1: LTC1144IS8-ND; Supplier 2: Newark; Supplier Part Number 2: 55M9289; RoHS: FALSE; Mounting Technology: Surface Mount; ComponentLink1Description: Manufacturer URL; ComponentLink1URL: http://www.linear.com/; ComponentLink2Description: Datasheet; ComponentLink2URL: http://cds.linear.com/docs/en/datasheet/lt1144.pdf; ComponentLink3Description: Package Specification; ComponentLink3URL: http://cds.linear.com/docs/en/packaging/05081610_G_SO8.pdf
footprint LT-S8-8_N (SOIC, 8-Leads, Body 5x4mm, Pitch 1.27mm, IPC Medium Density)
footprint LT-S8-8_L (SOIC, 8-Leads, Body 5x4mm, Pitch 1.27mm, IPC High Density)
footprint LT-S8-8_M (SOIC, 8-Leads, Body 5x4mm, Pitch 1.27mm, IPC Low Density)
pins: 1 BOOST "This pin will raise the oscillator frequency by a factor of 10 if tied high.", 2 CAP+ "Positive Terminal for Pump Capacitor.", 3 GND (power) "Ground Reference.", 4 CAP- "Negative Terminal for Pump Capacitor.", 5 VOUT (power) "Output of the Converter.", 6 ~{SHDN} (in) "Shutdown Pin. Tie to V+ pin or leave floating for normal operation. Tie to ground when in shutdown mode.", 7 OSC "Oscillator Input Pin. This pin can be overdriven with an external clock or can be slowed down by connecting an external capacitor between this pin and ground.", 8 V+ (power) "Input Voltage."

## LTC1144IS8#PBF
designator U?
Switched-Capacitor Wide Input Range Voltage Converter with Shutdown, 8-pin SOIC (S8-8), -40 to 85 degC, Pb-Free; Manufacturer: Linear Technology; PartNumber: LTC1144IS8#PBF; Frequency(kHz): 10; Ishutdown(uA): 8; Isupply(mA): 1.1; Max Iout(mA): 50; Vin Max(V): 18; Vin Min(V): 2; Voutput: 2Vin, -Vin, 0.5Vin; PackageVersion: Rev. G, 03/2012; PackageReference: S8-8; PackageDescription: 8-Pin Plastic Small Outline (Narrow .150 Inch), Body 4.9 x 3.9 mm, Pitch 1.27 mm; Supplier 1: Digi-Key; Supplier Part Number 1: LTC1144IS8#PBF-ND; Supplier 2: Farnell; Supplier Part Number 2: 1663597; Supplier 3: Newark; Supplier Part Number 3: 55M9290; RoHS: TRUE; Mounting Technology: Surface Mount; ComponentLink1Description: Manufacturer URL; ComponentLink1URL: http://www.linear.com/; ComponentLink2Description: Datasheet; ComponentLink2URL: http://cds.linear.com/docs/en/datasheet/lt1144.pdf; ComponentLink3Description: Package Specification; ComponentLink3URL: http://cds.linear.com/docs/en/packaging/05081610_G_SO8.pdf
footprint LT-S8-8_N (SOIC, 8-Leads, Body 5x4mm, Pitch 1.27mm, IPC Medium Density)
footprint LT-S8-8_L (SOIC, 8-Leads, Body 5x4mm, Pitch 1.27mm, IPC High Density)
footprint LT-S8-8_M (SOIC, 8-Leads, Body 5x4mm, Pitch 1.27mm, IPC Low Density)
pins: 1 BOOST "This pin will raise the oscillator frequency by a factor of 10 if tied high.", 2 CAP+ "Positive Terminal for Pump Capacitor.", 3 GND (power) "Ground Reference.", 4 CAP- "Negative Terminal for Pump Capacitor.", 5 VOUT (power) "Output of the Converter.", 6 ~{SHDN} (in) "Shutdown Pin. Tie to V+ pin or leave floating for normal operation. Tie to ground when in shutdown mode.", 7 OSC "Oscillator Input Pin. This pin can be overdriven with an external clock or can be slowed down by connecting an external capacitor between this pin and ground.", 8 V+ (power) "Input Voltage."